# Altium footprint library 59453052110ECHLF.PcbLib: 1 footprints
Each footprint in its own frame and in the unit in brackets; x right, y up, seen from the top. Pads: shape width x height; smd on the part's side, far side on the other; paste and mask are expansions set on the pad; w line width, h text height; cw(c..) or ccw(c..) is an arc to the next point about the centre after c.
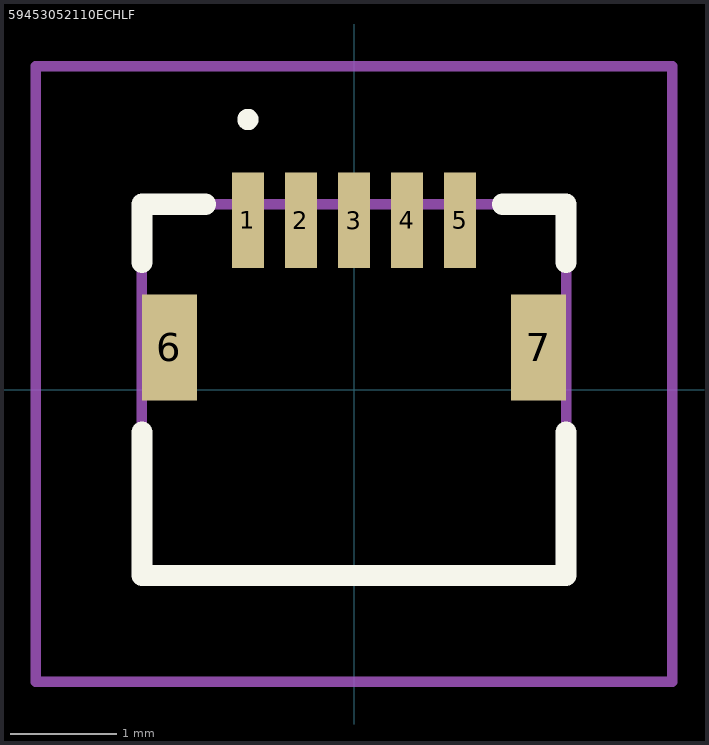
[diagram p0: the footprint, top view; thin cyan lines are the x and y axes]

## 59453052110ECHLF [mm]
pads (7):
  rect 0.3x0.9 smd: 1(-1,1.6) 2(-0.5,1.6) 3(0,1.6) 4(0.5,1.6) 5(1,1.6)
  rect 0.52x1 smd: 6(-1.74,0.4) 7(1.74,0.4)
Top Overlay:
  lines w0.1: -1,2.5 cw(c-1,2.55) -1,2.6 ; -1,2.5 -1,2.5 ; -1,2.5 ccw(c-1,2.55) -1,2.6 ; -1,2.6 -1,2.6
  lines w0.2: -2,-0.4 -2,-1.75 2,-1.75 2,-0.4 ; -2,1.2 -2,1.75 -1.4,1.75 ; 1.4,1.75 2,1.75 2,1.2
Mechanical 15:
  lines w0.1: -2,-1.75 2,-1.75 2,1.75 -2,1.75 -2,-1.75
Mechanical 20:
  lines w0.1: -3,-2.75 3,-2.75 3,3.05 -3,3.05 -3,-2.75